# EAGLE library part LTC4071 (library X893)
LTC4071 - Li-Ion/Polymer Shunt Battery Charger System with Low Battery Disconnect http://www.linear.com/product/LTC4071
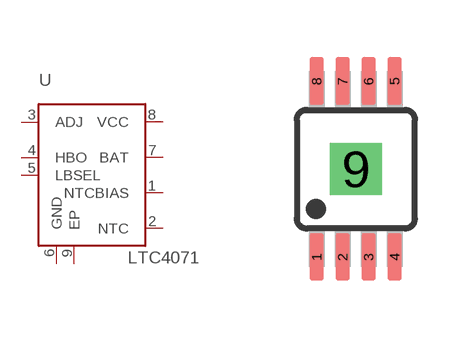
[diagram p182: symbol with the pads of MSOP8-THERMAL; footprint MSOP8-THERMAL]

Designator prefix U

## LTC4071  [MSOP8-THERMAL]
1  NTCBIAS  pas
2  NTC  pas
3  ADJ  pas
4  HBO  pas
5  LBSEL  pas
6  GND  pwr
7  BAT  pas
8  VCC  pas
9  EP  pwr

## Footprint MSOP8-THERMAL (pad centres in mm)
8M, 8-Lead, 0.118" Wide with Thermal pad, Miniature Small Outline Package MSOP 8M-Package doc1097.pdf
smd 0.35 x 1.2: 1 -0.975,-2.2; 2 -0.325,-2.2; 3 0.325,-2.2; 4 0.975,-2.2; 5 0.975,2.2; 6 0.325,2.2; 7 -0.325,2.2; 8 -0.975,2.2
drill 0.8 pad 1.2 square: 9 0,0